# Altium schematic symbol library Booster.SchLib: 29 symbols
Pins are listed as number, name and electrical type; pins without a type are passive.

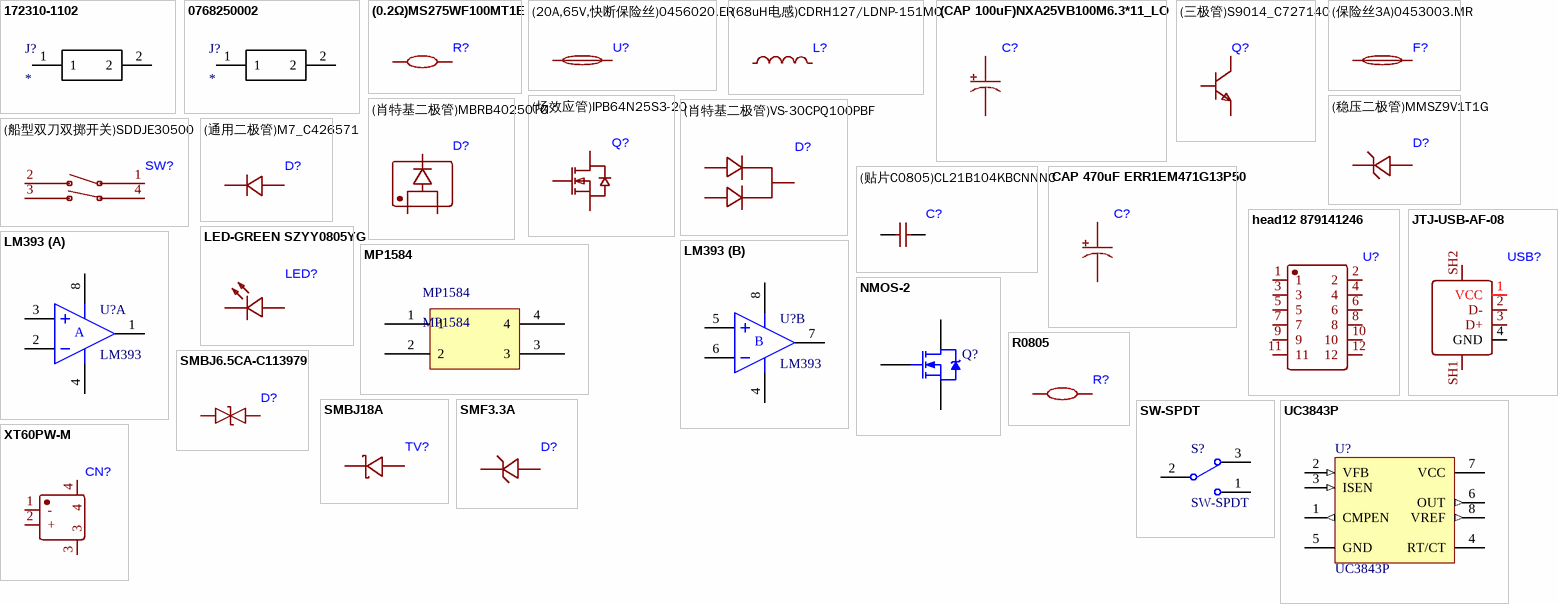
[diagram p0: symbols 172310-1102 to XT60PW-M]

## 172310-1102
designator J?
Connector; Manufacturer_Name: Molex; Manufacturer_Part_Number: 172310-1102; Allied_Number: 70617676; Datasheet Link: http://www.farnell.com/cad/1986622.pdf; Mouser Part Number: 538-172310-1102; Mouser Price/Stock: https://www.mouser.com/Search/Refine.aspx?Keyword=538-172310-1102; RS Part Number: 8951880; RS Price/Stock: http://uk.rs-online.com/web/p/products/8951880; Allied Price/Stock: http://www.alliedelec.com/molex-incorporated-172310-1102/70617676/
footprint 172310-1102_VERSION2
pins: 1, 2

## 0768250002
designator J?
Connector; Manufacturer_Name: Molex; Manufacturer_Part_Number: 0768250002; Datasheet Link: https://www.molex.com/pdm_docs/sd/768250002_sd.pdf; Height: 16mm; Mouser Part Number: N/A; Mouser Price/Stock: https://www.mouser.com/Search/Refine.aspx?Keyword=N%2FA
footprint 0768250002
pins: 1, 2

## (0.2Ω)MS275WF100MT1E
designator R?
footprint R4527
pins: 1, 2

## (20A,65V,快断保险丝)0456020.ER
designator U?
footprint FUSE-SMD_L10.1-W3.1
pins: 1, 2

## (68uH电感)CDRH127/LDNP-151MC
designator L?
footprint IND-SMD_L12.0-W12.0
pins: 1, 2

## (CAP 100uF)NXA25VB100M6.3*11_LO
designator C?
footprint CAP-TH_BD6.3-P2.50-D1.0-FD
pins: 1, 2

## (三极管)S9014_C727140
designator Q?
footprint SOT-23-3_L2.9-W1.6-P1.90-LS2.8-BR
pins: 1 B, 2 E, 3 C

## (保险丝3A)0453003.MR
designator F?
footprint FUSE-SMD_L6.1-W2.6
pins: 1, 2

## (场效应管)IPB64N25S3-20
designator Q?
footprint PG-TO263-3_L10.3-W9.4-P2.54-BR
pins: 1 G, 2 D, 3 S

## (稳压二极管)MMSZ9V1T1G
designator D?
footprint SOD-123_L2.7-W1.6-LS3.7-RD-3
pins: 1 K, 2 A

## (肖特基二极管)MBRB40250TG
designator D?
footprint (肖特基二极管)D2PAK_L9.1-W10.0-P2.54-LS15.3-BR
pins: 1, 3, 4

## (肖特基二极管)VS-30CPQ100PBF
designator D?
footprint TO-247AC-3_L15.8-W5.0-P5.46-L
pins: 1 A1, 2 K, 3 A2

## (船型双刀双掷开关)SDDJE30500
designator SW?
footprint SW-TH_SDDJE30500
pins: 1, 2, 3, 4

## (贴片C0805)CL21B104KBCNNNC
designator C?
footprint C0805
pins: 1, 2

## (通用二极管)M7_C426571
designator D?
footprint SMA_L4.4-W2.6-LS5.0-RD
pins: 1 C, 2 A

## CAP 470uF ERR1EM471G13P50
designator C?
footprint CAP-TH_BD10.0-P5.00-D1.0-FD 470uF
pins: 1, 2

## head12 879141246
designator U?
footprint HDR-TH_12P-P2.54-V-M-R2-C6-S2.54_MOLEX
pins: 1, 2, 3, 4, 5, 6, 7, 8, 9, 10, 11, 12

## JTJ-USB-AF-08
designator USB?
footprint USB-A-TH__USB-AF-90
pins: 1 VCC, 2 D-, 3 D+, 4 GND, SH1, SH2

## LED-GREEN SZYY0805YG
designator LED?
footprint LED0805-R-RD_GREEN
pins: 1 +, 2 -

## LM393
designator U?
footprint LM393_SO-G8 (Small Outline; 8 Leads; Body Width 3.9 mm; Pitch 1.27 mm)
part A pins: 1 OUT (power), 2 IN- (power), 3 IN+ (power), 4 V- (power), 8 V+ (power)
part B pins: 4 V- (power), 5 IN+ (power), 6 IN- (power), 7 OUT (power), 8 V+ (power)
part A text: A
part B text: B

## MP1584
designator MP1584
footprint 1584 (5V   3.3V 12V稳压模块)
pins: 1, 2, 3, 4

## NMOS-2
designator Q?
N-Channel Power MOSFET; Note: Pin 2 is electrically connected to pin 4.; Published: 8-Jun-2000; LatestRevisionDate: 17-Jul-2002; LatestRevisionNote: Re-released for DXP Platform.; DatasheetVersion: PD-9.814; PackageVersion: Feb-1997; PackageReference: TO-220AB; Publisher: Altium Limited; PackageDescription: TO, Thru-Hole, Vertical, Heatsink Mounted; 3 In-Line Leads; Pitch 2.54 mm; ComponentLink1Description: Manufacturer Link; ComponentLink1URL: http://www.irf.com/
footprint DPAK (D-PAK/TO-252-AA;)
pins: 1 G, 2 D, 3 S

## R0805
designator R?
footprint R0805
pins: 1, 2

## SMBJ6.5CA-C113979
designator D?
footprint SMB_L4.6-W3.6-LS5.3-BI
pins: 1, 2

## SMBJ18A
designator TV?
footprint SMB_L4.6-W3.6-LS5.3-L-FD
pins: 1 A, 2 K

## SMF3.3A
designator D?
footprint SOD-123_L2.8-W1.8-LS3.7-RD
pins: 1, 2

## SW-SPDT
designator S?
SPDT Subminiature Toggle Switch, Right Angle Mounting, Vertical Actuation; Published: 24-Mar-1999; LatestRevisionDate: 17-Dec-2003; LatestRevisionNote: Schematic revised, PCB Footprint replaced.; DatasheetDocument: 05-Dec-2000; PackageReference: TL36WW15050; Publisher: Altium Limited; ComponentLink1Description: Manufacturer Link; ComponentLink1URL: http://www.apem.com
footprint SMALL_switch (开关)
pins: 1, 2, 3

## UC3843P
designator U?
Current-Mode PWM Controller; Published: 15-Apr-2002; LatestRevisionDate: 6-Jun-2005; LatestRevisionNote: Stylized 3D Model Added.; DatasheetDocument: Dec-1999; PackageDocument: Jun-1999; PackageReference: P008; Publisher: Altium Limited; Code_JEDEC: MO-001-AN; ComponentLink1Description: Manufacturer Link; ComponentLink1URL: http://www.ti.com/
footprint SO-G8 (Small Outline; 8 Leads; Body Width 3.9 mm; Pitch 1.27 mm)
3D model P008 (DIP; 8 Leads; Row Spacing 7.62 mm; Pitch 2.54 mm)
pins: 1 CMPEN (out), 2 VFB (in), 3 ISEN (in), 4 RT/CT, 5 GND (power), 6 OUT (out), 7 VCC (power), 8 VREF (out)

## XT60PW-M
designator CN?
footprint CONN-TH_XT60PW-M
pins: 1 -, 2 +, 3, 4